# Altium footprint library PcbLib2.PcbLib: 17 footprints (part 2 of 2)
Each footprint in its own frame and in the unit in brackets; x right, y up, seen from the top. Pads: shape width x height; smd on the part's side, far side on the other; paste and mask are expansions set on the pad; w line width, h text height; cw(c..) or ccw(c..) is an arc to the next point about the centre after c.
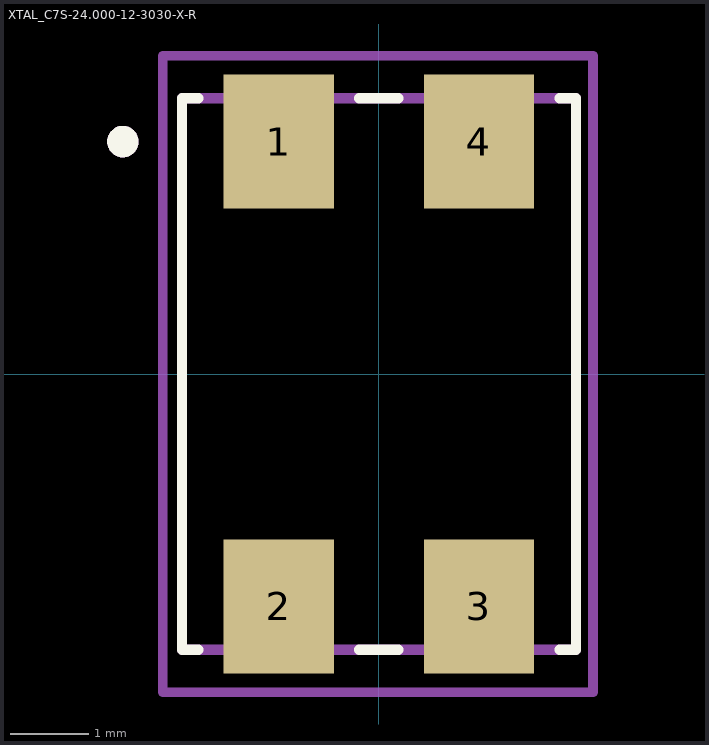
[diagram p1: the footprint, top view; thin cyan lines are the x and y axes]

## XTAL_C7S-24.000-12-3030-X-R [mm]
height 1.1
pads (4):
  rect 1.4x1.7 smd: 1(-1.27,2.95) 2(-1.27,-2.95) 3(1.27,-2.95) 4(1.27,2.95)
Top Overlay:
  circle w0.2: c-3.25,2.95 r0.1
  lines w0.127: -2.29,-3.5 -2.5,-3.5 -2.5,3.5 -2.29,3.5 ; -0.25,-3.5 0.25,-3.5 ; -0.25,3.5 0.25,3.5 ; 2.29,-3.5 2.5,-3.5 2.5,3.5 2.29,3.5
Mechanical 13:
  circle w0.2: c-3.25,2.95 r0.1
  lines w0.127: -2.5,-3.5 -2.5,3.5 2.5,3.5 2.5,-3.5 -2.5,-3.5
Assembly Notes:
  lines w0.125: -2.743,-4.039 -2.743,4.039 2.718,4.039 2.718,-4.039 -2.743,-4.039
3D body "step_temp.STEP": height 1.1, standoff 0, extent -2.5,-3.5 2.5,3.5